# Altium footprint library MT-MONITOR V1.0.0.PcbLib: 47 footprints (part 1 of 3)
Each footprint in its own frame and in the unit in brackets; x right, y up, seen from the top. Pads: shape width x height; smd on the part's side, far side on the other; paste and mask are expansions set on the pad; w line width, h text height; cw(c..) or ccw(c..) is an arc to the next point about the centre after c.
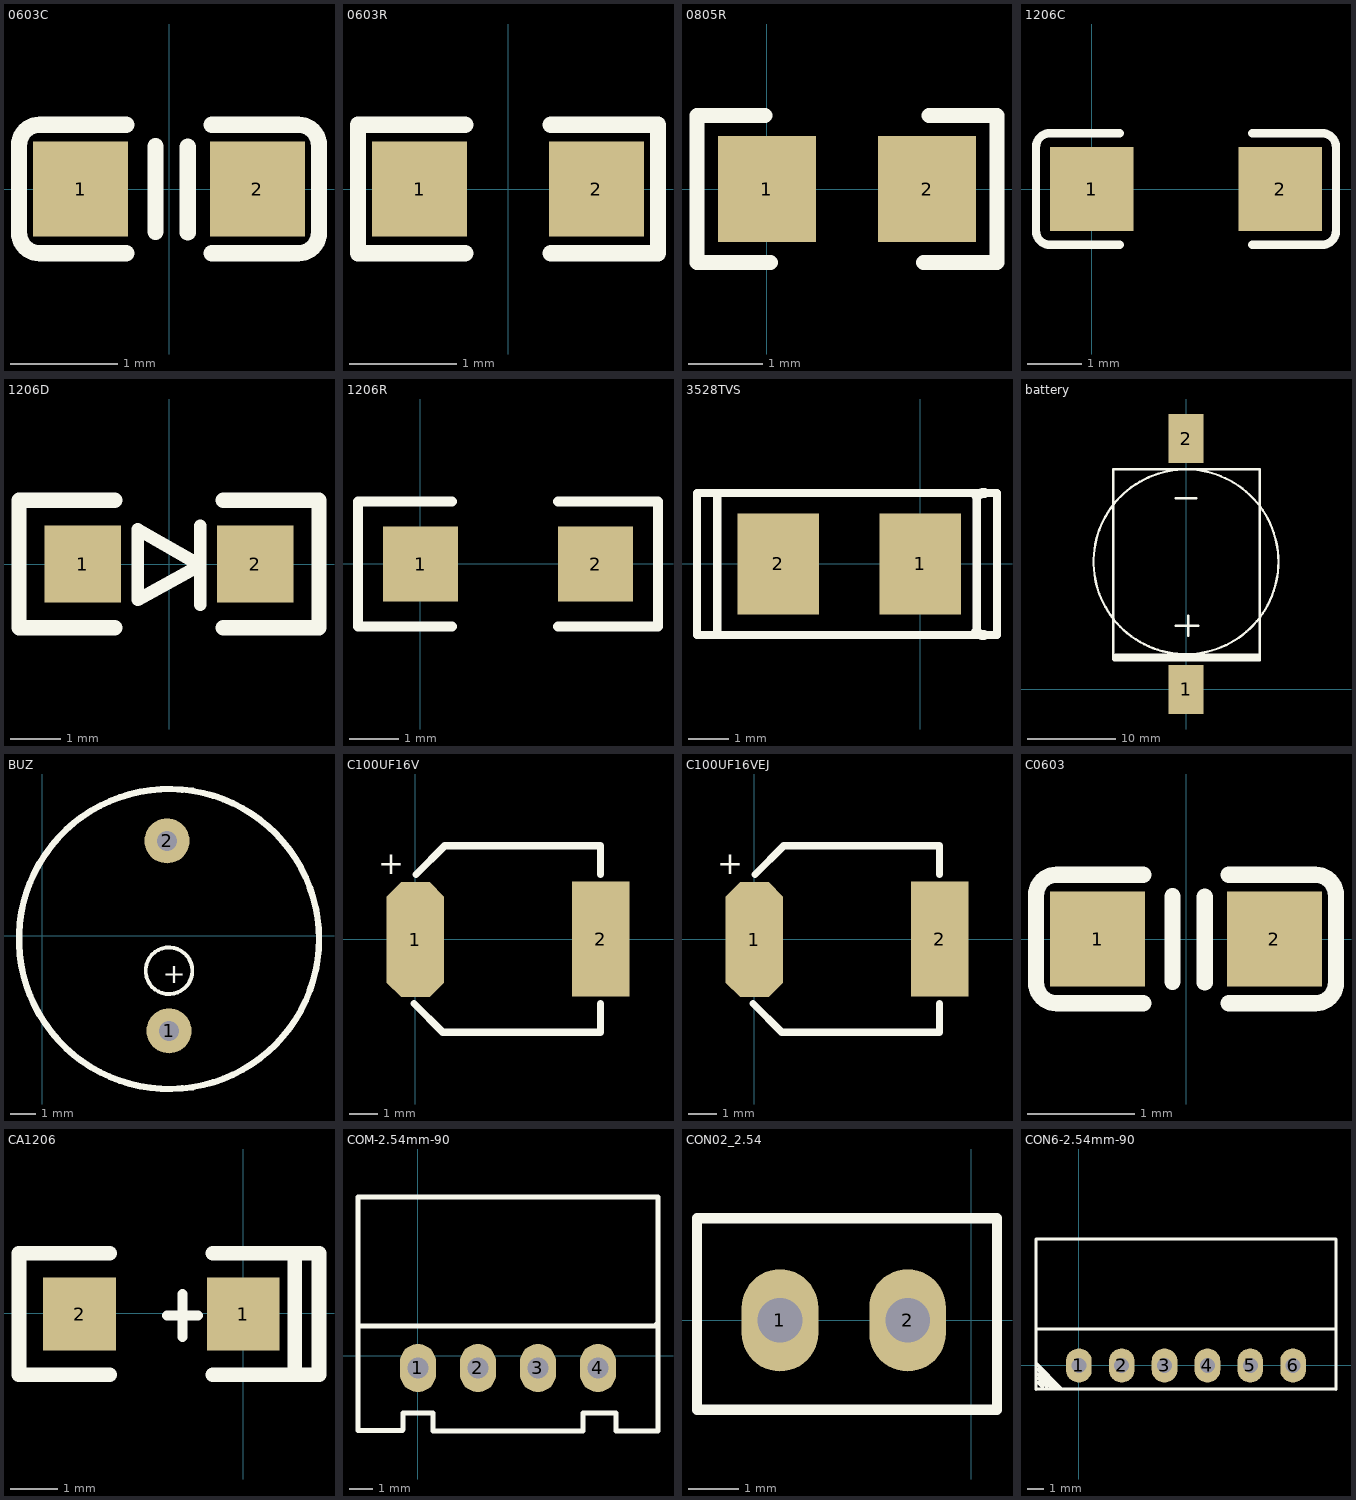
[diagram p0: the footprints below, top view; thin cyan lines are the x and y axes]

## 0603C [mil]
height 9.5
pads (2):
  rect 35x35 smd: 1(-32.5,0) 2(32.5,0)
Top Overlay:
  lines w6: -15.75,-23.62 -47.5,-23.62 cw(c-47.5,-16) -55.12,-16 -55.12,16 cw(c-47.5,16) -47.5,23.62 -15.75,23.62 ; -4.94,-15.75 -4.94,15.75 ; 6.87,-16 6.87,15.5 ; 15.75,-23.62 47.5,-23.62 ccw(c47.5,-16) 55.12,-16 55.12,16 ccw(c47.5,16) 47.5,23.62 15.75,23.62

## 0603R [mil]
height 9.5
pads (2):
  rect 35x35 smd: 1(-32.5,0) 2(32.5,0)
Top Overlay:
  lines w6: -15.75,-23.62 -55.12,-23.62 -55.12,23.62 -15.75,23.62 ; 15.74,-23.62 55.11,-23.62 55.11,23.62 15.74,23.62

## 0805R [mil]
height 9.5
pads (2):
  rect 52x56 smd: 1(0,0) 2(85,0)
Top Overlay:
  lines w8: -1,39 -37,39 -37,-39 2,-39 ; 83,-39 122,-39 122,39 86,39

## 1206C [mil]
height 9.5
pads (2):
  rect 60x60 smd: 1(0,0) 2(135,0)
Top Overlay:
  lines w6: 20,-40 -30,-40 cw(c-30,-30) -40,-30 -40,30 cw(c-30,30) -30,40 20,40 ; 115,-40 165,-40 ccw(c165,-30) 175,-30 175,30 ccw(c165,30) 165,40 115,40

## 1206D [mil]
height 9.5
pads (2):
  rect 60x60 smd: 1(-67.5,0) 2(67.5,0)
Top Overlay:
  lines w10: 24.5,-32 24.5,30 ; -24.5,-28 24.5,-1 -24.5,27 -24.5,-28
  lines w12: -42.5,-50 -117.5,-50 -117.5,50 -42.5,50 ; 42.5,-50 117.5,-50 117.5,50 42.5,50

## 1206R [mil]
height 9.5
pads (2):
  rect 60x60 smd: 1(0.33,-0.04) 2(140.33,-0.04)
Top Overlay:
  lines w8: 25.33,-50.04 -49.67,-50.04 -49.67,49.96 25.33,49.96 ; 110.33,-50.04 190.33,-50.04 190.33,49.96 110.33,49.96

## 3528TVS [mil]
pads (2):
  rect 80x100 smd: 1(0.09,-0.25) 2(-139.91,-0.25)
Top Overlay:
  lines w8: -199.91,-70.25 -199.91,69.75 ; 55.68,-70.25 55.68,69.75 ; 60.09,-70.25 -219.91,-70.25 -219.91,69.75 60.09,69.75 ; 62.62,-70.25 75.68,-70.25 75.68,69.75 63.09,69.75
  lines w10: 55.2,-67.18 ccw(c62.62,-59.77) 62.62,-70.25 ; 55.68,66.68 cw(c63.09,59.27) 63.09,69.75

## battery [mm]
height 0.241
pads (2):
  rect 4x5.588 smd mask+0.102: 1(0,0)
  rect 4x5.588 smd: 2(0,28.5)
Top Overlay:
  circle w0.254: c0,14.5 r10.5
  lines w0.3: -8.255,25.019 -8.255,9.144 -8.255,3.683 ; -8.128,25.019 8.382,25.019 8.382,9.144 ; -1.143,7.239 1.397,7.239 ; -1.143,21.717 1.143,21.717 ; 0.254,6.096 0.254,8.382 ; 8.255,3.429 -8.255,3.429 ; 8.382,4.445 8.382,3.683 -8.255,3.683 ; 8.382,9.525 8.382,3.937 ; -8.255,3.429 -8.255,3.683 ; -8.255,3.429 -8.128,3.302 4.699,3.302 8.382,3.302 8.382,3.937 ; -8.255,3.683 -8.001,3.937 8.382,3.937

## BUZ [mm]
pads (2):
  round 1.8 hole 0.8: 1(5.08,-3.8) 2(5,3.8)
Top Overlay:
  circle w0.254: c5.08,-0.127 r6.003
  circle w0.152: c5.08,-1.397 r0.934
  text "+" at 4.826,-1.905 h0.8

## C100UF16V [mil]
height 66.93
pads (2):
  oct 80x160 smd: 1(-0.01,-0.43)
  rect 80x160 smd: 2(257.94,0.35)
Top Overlay:
  lines w10: -2,-89.65 38,-129.65 257.94,-129.65 257.94,-89.65 ; 0.77,90.35 40.77,130.35 257.94,130.35 257.94,90.35
  text "+" at -52.06,90.35 h31.5
3D body: height 196.85, standoff 1, extent 20,-115 240,125

## C100UF16VEJ [mil]
pads (2):
  oct 80x160 smd: 1(-0.01,-0.43)
  rect 80x160 smd: 2(257.94,0.35)
Top Overlay:
  lines w10: -2,-89.65 38,-129.65 257.94,-129.65 257.94,-89.65 ; 0.77,90.35 40.77,130.35 257.94,130.35 257.94,90.35
  text "+" at -52.06,90.35 h31.5

## C0603 [mil]
height 9.5
pads (2):
  rect 35x35 smd: 1(-32.5,0) 2(32.5,0)
Top Overlay:
  lines w6: -15.75,-23.62 -47.5,-23.62 cw(c-47.5,-16) -55.12,-16 -55.12,16 cw(c-47.5,16) -47.5,23.62 -15.75,23.62 ; -4.94,-15.75 -4.94,15.75 ; 6.87,-16 6.87,15.5 ; 15.75,-23.62 47.5,-23.62 ccw(c47.5,-16) 55.12,-16 55.12,16 ccw(c47.5,16) 47.5,23.62 15.75,23.62
3D body: height 11.89, standoff 0, extent -33.5,-15 29.5,16.5

## CA1206 [mil]
pads (2):
  rect 60x60 smd: 1(-0.08,-0.48) 2(-135.08,-0.48)
Top Overlay:
  lines w8: -63.03,-1.66 -37.44,-1.66 ; -50.24,-19.38 -50.24,16.05
  lines w12: -110.08,-50.48 -185.08,-50.48 -185.08,49.52 -110.08,49.52 ; -25.08,-50.48 42.42,-50.48 ; -25.08,49.52 42.42,49.52 ; 42.42,-50.48 42.42,49.52 ; 42.42,-50.48 62.42,-50.48 62.42,49.52 42.42,49.52

## COM-2.54mm-90 [mil]
pads (4):
  oval 60x80 hole 35: 1(0,-20) 2(100,-20) 3(200,-20) 4(300,-20)
Top Overlay:
  lines w7.87: -100,-124 -26,-124 -25,-123 -25,-95 25,-95 25,-125 275,-125 275,-95 320,-95 330,-95 330,-125 400,-125 400,150
  lines w8: -100,-124 -100,-80 -100,150 -100,265 400,265 400,150 400,55 395,50 -100,50
3D body: height 263.78, standoff 7.87, extent 272,-60 334,20
3D body: height 263.78, standoff 7.87, extent 172,-60 234,20
3D body: height 263.78, standoff 7.87, extent 72,-60 134,20
3D body: height 263.78, standoff 7.87, extent -28,-60 34,20

## CON02_2.54 [mil]
pads (2):
  oval 60x80 hole 35: 1(-150,0) 2(-50,0)
Top Overlay:
  lines w8: -215,-70 -215,80 20,80 20,-70 -215,-70

## CON6-2.54mm-90 [mil]
height 9.5
pads (6):
  oval 60x80 hole 35: 1(0,0) 2(100,0) 3(200,0) 4(300,0) 5(400,0) 6(500,0)
Top Overlay:
  lines w7.87: -100,-55 600,-55 ; -100,-40 -95,-40 -85,-50 ; -100,-30 -95,-30 -75,-50 ; -100,-20 -95,-20 -60,-55 ; -100,-10 -95,-10 -50,-55 ; -100,85 595,85 ; -40,-55 -100,5 -100,15 -100,0 -100,295.28 599.72,295.28 ; 600,150 600,295
  lines w8: -100,-55 -100,150 ; 600,-55 600,150